# Altium schematic symbol library nixie-tube.SchLib: 2 symbols
Pins are listed as number, name and electrical type; pins without a type are passive.

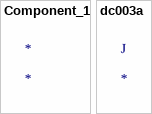
[diagram p0: symbols Component_1 to dc003a]

## Component_1
designator *

## dc003a
designator J